# Altium schematic symbol library TLV1117LV18DCYR.SchLib: 1 symbol
Pins are listed as number, name and electrical type; pins without a type are passive.

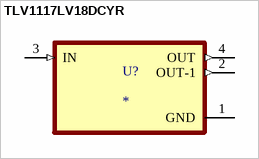
[diagram p0: symbol TLV1117LV18DCYR]

## TLV1117LV18DCYR
designator U?
1-A, low-dropout voltage regulator 4-SOT-223 -40 to 125; MP: TLV1117LV18DCYR; MF: Texas Instruments; Purchase-URL: https://pricing.snapeda.com/search/part/TLV1117LV18DCYR/?ref=eda; Price: None; SnapEDA_Link: https://www.snapeda.com/parts/TLV1117LV18DCYR/Texas%20Instruments/view-part/537990/?ref=snap; Package: SOT-223-4 Texas Instruments; Availability: Good; Check_prices: https://www.snapeda.com/parts/TLV1117LV18DCYR/Texas%20Instruments/view-part/537990/?ref=eda; Value: *
footprint SOT230P700X180-4N
pins: 1 GND (power), 2 OUT-1 (out), 3 IN (in), 4 OUT (out)